# Altium footprint library Connectors-Terminal_Blocks.PcbLib: 15 footprints
Each footprint in its own frame and in the unit in brackets; x right, y up, seen from the top. Pads: shape width x height; smd on the part's side, far side on the other; paste and mask are expansions set on the pad; w line width, h text height; cw(c..) or ccw(c..) is an arc to the next point about the centre after c.
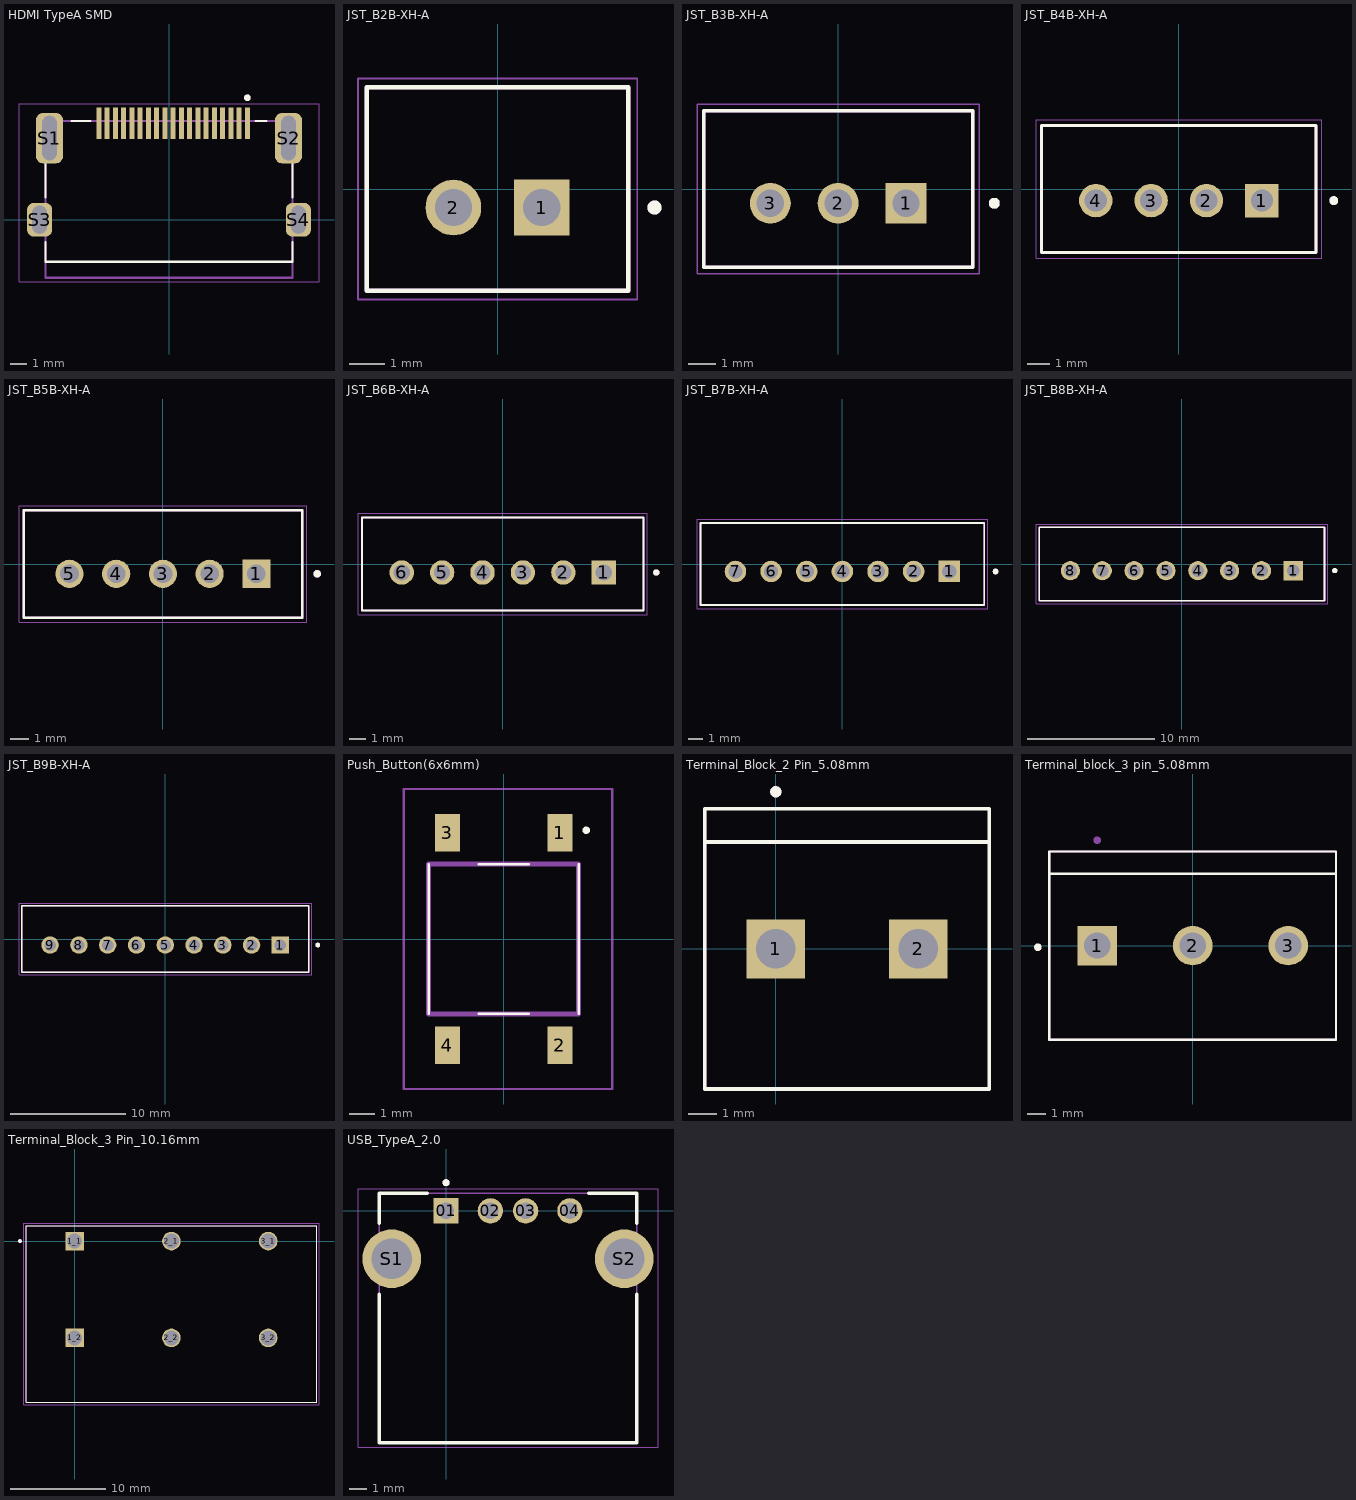
[diagram p0: the footprints below, top view; thin cyan lines are the x and y axes]

## HDMI TypeA SMD [mm]
pads (23):
  rect 0.3x1.9 smd mask+0.102: 1(4.75,5.85) 2(4.25,5.85) 3(3.75,5.85) 4(3.25,5.85) 5(2.75,5.85) 6(2.25,5.85) 7(1.75,5.85) 8(1.25,5.85) 9(0.75,5.85) 10(0.25,5.85) 11(-0.25,5.85) 12(-0.75,5.85) 13(-1.25,5.85) 14(-1.75,5.85) 15(-2.25,5.85) 16(-2.75,5.85) 17(-3.25,5.85) 18(-3.75,5.85) 19(-4.25,5.85)
  rrect50% 1.651x3.048 hole 0.9 slot 2.7 at 90 deg mask+0.102: S1(-7.25,4.95) S2(7.25,4.95)
  rrect50% 1.524x2.032 hole 0.9 slot 1.7 at 90 deg mask+0.102: S3(-7.85,0) S4(7.85,0)
Top Overlay:
  circle w0.2: c4.75,7.4 r0.1
  lines w0.127: -7.5,-1.35 -7.5,-2.55 7.5,-2.55 7.5,-1.35 ; -7.5,1.35 -7.5,3.6 ; -5.9,5.98 -4.75,5.98 ; 5.25,5.98 5.9,5.98 ; 7.5,1.35 7.5,3.6
Mechanical 13:
  circle w0.2: c4.75,7.4 r0.1
  lines w0.127: -7.5,-3.52 7.5,-3.52 7.5,5.98 -7.5,5.98 -7.5,-2.55 -7.5,-3.52
Mechanical 15:
  lines w0.05: -9.1,-3.77 9.1,-3.77 9.1,7.05 -9.1,7.05 -9.1,-3.77
3D body "step_temp.STEP": height 6.26, standoff -1.87, extent -8.1,-3.52 8.1,6.58

## JST_B2B-XH-A [mm]
pads (2):
  rect 1.575x1.575 / inner round 1.575 / far side rect 1.575x1.575 hole 1.05: 1(1.25,-0.525)
  round 1.575 hole 1.05: 2(-1.25,-0.525)
Top Overlay:
  circle w0.2: c4.44,-0.525 r0.1
  lines w0.127: -3.7,-2.875 3.7,-2.875 3.7,2.875 -3.7,2.875 -3.7,-2.875
Mechanical 13:
  circle w0.2: c4.44,-0.525 r0.1
  lines w0.127: -3.7,-2.875 3.7,-2.875 3.7,2.875 -3.7,2.875 -3.7,-2.875
Mechanical 15:
  lines w0.05: -3.95,-3.125 -3.95,3.125 3.95,3.125 3.95,-3.125 -3.95,-3.125
3D body "JST B2B-XH-A Through-hole shrouded header top entry type.step": height 7, standoff -3.4, extent -3.75,-2.95 3.75,2.95

## JST_B3B-XH-A [mm]
pads (3):
  rect 1.508x1.508 / inner round 1.508 / far side rect 1.508x1.508 hole 1: 1(2.5,-0.525)
  round 1.508 hole 1: 2(0,-0.525) 3(-2.5,-0.525)
Top Overlay:
  circle w0.2: c5.75,-0.525 r0.1
  lines w0.127: -4.95,-2.875 -4.95,2.875 4.95,2.875 4.95,-2.875 -4.95,-2.875
Mechanical 13:
  circle w0.2: c5.75,-0.525 r0.1
  lines w0.127: -4.95,-2.875 -4.95,2.875 4.95,2.875 4.95,-2.875 -4.95,-2.875
Mechanical 15:
  lines w0.05: -5.2,-3.125 -5.2,3.125 5.2,3.125 5.2,-3.125 -5.2,-3.125
3D body "step_temp.STEP": height 7, standoff -3.4, extent -4.95,-2.875 4.95,2.875

## JST_B4B-XH-A [mm]
pads (4):
  rect 1.508x1.508 / inner round 1.508 / far side rect 1.508x1.508 hole 1: 1(3.75,-0.525)
  round 1.508 hole 1: 2(1.25,-0.525) 3(-1.25,-0.525) 4(-3.75,-0.525)
Top Overlay:
  circle w0.2: c7,-0.525 r0.1
  lines w0.127: -6.2,-2.875 -6.2,2.875 6.2,2.875 6.2,-2.875 -6.2,-2.875
Mechanical 13:
  circle w0.2: c7,-0.525 r0.1
  lines w0.127: -6.2,-2.875 -6.2,2.875 6.2,2.875 6.2,-2.875 -6.2,-2.875
Mechanical 15:
  lines w0.05: -6.45,-3.125 -6.45,3.125 6.45,3.125 6.45,-3.125 -6.45,-3.125
3D body "B4B-XH-A.STEP": height 6.8, standoff -3.6, extent -6.2,-2.829 6.2,2.921

## JST_B5B-XH-A [mm]
pads (5):
  rect 1.508x1.508 / inner round 1.508 / far side rect 1.508x1.508 hole 1: 1(5,-0.525)
  round 1.508 hole 1: 2(2.5,-0.525) 3(0,-0.525) 4(-2.5,-0.525) 5(-5,-0.525)
Top Overlay:
  circle w0.2: c8.25,-0.525 r0.1
  lines w0.127: -7.45,-2.875 7.45,-2.875 7.45,2.875 -7.45,2.875 -7.45,-2.875
Mechanical 13:
  circle w0.2: c8.25,-0.525 r0.1
  lines w0.127: -7.45,-2.875 7.45,-2.875 7.45,2.875 -7.45,2.875 -7.45,-2.875
Mechanical 15:
  lines w0.05: -7.7,-3.125 7.7,-3.125 7.7,3.125 -7.7,3.125 -7.7,-3.125
3D body "step_temp.STEP": height 7, standoff -3.4, extent -7.45,-2.875 7.45,2.875

## JST_B6B-XH-A [mm]
pads (6):
  rect 1.508x1.508 / inner round 1.508 / far side rect 1.508x1.508 hole 1: 1(6.25,-0.525)
  round 1.508 hole 1: 2(3.75,-0.525) 3(1.25,-0.525) 4(-1.25,-0.525) 5(-3.75,-0.525) 6(-6.25,-0.525)
Top Overlay:
  circle w0.2: c9.5,-0.525 r0.1
  lines w0.127: -8.7,-2.875 -8.7,2.875 8.7,2.875 8.7,-2.875 -8.7,-2.875
Mechanical 13:
  circle w0.2: c9.5,-0.525 r0.1
  lines w0.127: -8.7,-2.875 -8.7,2.875 8.7,2.875 8.7,-2.875 -8.7,-2.875
Mechanical 15:
  lines w0.05: -8.95,-3.125 -8.95,3.125 8.95,3.125 8.95,-3.125 -8.95,-3.125
3D body "step_temp.STEP": height 7, standoff -3.4, extent -8.7,-2.875 8.7,2.875

## JST_B7B-XH-A [mm]
pads (7):
  rect 1.508x1.508 / inner round 1.508 / far side rect 1.508x1.508 hole 1: 1(7.5,-0.525)
  round 1.508 hole 1: 2(5,-0.525) 3(2.5,-0.525) 4(0,-0.525) 5(-2.5,-0.525) 6(-5,-0.525) 7(-7.5,-0.525)
Top Overlay:
  circle w0.2: c10.75,-0.525 r0.1
  lines w0.127: -9.95,-2.875 -9.95,2.875 9.95,2.875 9.95,-2.875 -9.95,-2.875
Mechanical 13:
  circle w0.2: c10.75,-0.525 r0.1
  lines w0.127: -9.95,-2.875 -9.95,2.875 9.95,2.875 9.95,-2.875 -9.95,-2.875
Mechanical 15:
  lines w0.05: -10.2,-3.125 -10.2,3.125 10.2,3.125 10.2,-3.125 -10.2,-3.125
3D body "step_temp.STEP": height 7, standoff -3.4, extent -9.95,-2.875 9.95,2.875

## JST_B8B-XH-A [mm]
pads (8):
  rect 1.508x1.508 / inner round 1.508 / far side rect 1.508x1.508 hole 1: 1(8.75,-0.525)
  round 1.508 hole 1: 2(6.25,-0.525) 3(3.75,-0.525) 4(1.25,-0.525) 5(-1.25,-0.525) 6(-3.75,-0.525) 7(-6.25,-0.525) 8(-8.75,-0.525)
Top Overlay:
  circle w0.2: c12,-0.525 r0.1
  lines w0.127: -11.2,-2.875 11.2,-2.875 11.2,2.875 -11.2,2.875 -11.2,-2.875
Mechanical 13:
  circle w0.2: c12,-0.525 r0.1
  lines w0.127: -11.2,-2.875 11.2,-2.875 11.2,2.875 -11.2,2.875 -11.2,-2.875
Mechanical 15:
  lines w0.05: -11.45,-3.125 11.45,-3.125 11.45,3.125 -11.45,3.125 -11.45,-3.125
3D body "step_temp.STEP": height 7, standoff -3.4, extent -11.2,-2.875 11.2,2.875

## JST_B9B-XH-A [mm]
pads (9):
  rect 1.508x1.508 / inner round 1.508 / far side rect 1.508x1.508 hole 1: 1(10,-0.525)
  round 1.508 hole 1: 2(7.5,-0.525) 3(5,-0.525) 4(2.5,-0.525) 5(0,-0.525) 6(-2.5,-0.525) 7(-5,-0.525) 8(-7.5,-0.525) 9(-10,-0.525)
Top Overlay:
  circle w0.2: c13.25,-0.525 r0.1
  lines w0.127: -12.45,-2.875 12.45,-2.875 12.45,2.875 -12.45,2.875 -12.45,-2.875
Mechanical 13:
  circle w0.2: c13.25,-0.525 r0.1
  lines w0.127: -12.45,-2.875 12.45,-2.875 12.45,2.875 -12.45,2.875 -12.45,-2.875
Mechanical 15:
  lines w0.05: -12.7,-3.125 12.7,-3.125 12.7,3.125 -12.7,3.125 -12.7,-3.125
3D body "step_temp.STEP": height 7, standoff -3.4, extent -12.45,-2.875 12.45,2.875

## Push_Button(6x6mm) [mm]
pads (4):
  rect 1x1.5 smd: 1(2.25,4.25) 2(2.25,-4.25) 3(-2.25,4.25) 4(-2.25,-4.25)
Top Overlay:
  lines w0.1: -3,-3 -3,3 -3,-3 ; -1,-3 1,-3 -1,-3 ; -1,3 1,3 -1,3 ; 3,-3 3,3 3,-3
  lines w0.2: 3.3,4.3 cw(c3.3,4.35) 3.3,4.4 ; 3.3,4.3 ccw(c3.3,4.35) 3.3,4.4 ; 3.3,4.3 cw(c3.3,4.35) 3.3,4.4
Mechanical 15:
  lines w0.2: -3,-3 -3,3 3,3 3,-3 -3,-3
Mechanical 20:
  lines w0.1: -4,-6 -4,6 4.35,6 4.35,-6 -4,-6
3D body "CUI_DEVICES_TS04-66-50-BK-100-SMT.step": height 5, standoff -0.1, extent -3,-5 3,5

## Terminal_Block_2 Pin_5.08mm [mm]
pads (2):
  rect 2.1x2.1 hole 1.4: 1(0,0) 2(5.08,0)
Top Overlay:
  circle w0.2: c0,5.6 r0.1
  lines w0.127: -2.54,3.81 7.62,3.81 ; -2.54,-5 -2.54,5 7.62,5 7.62,-5 -2.54,-5
Mechanical 13:
  circle w0.2: c0,5.6 r0.1
  lines w0.127: -2.54,-5 -2.54,5
3D body "2er Terminal Block.step": height 14, standoff -4.25, extent -3.067,-4.873 7.493,5.127

## Terminal_block_3 pin_5.08mm [mm]
pads (3):
  rect 2.1x2.1 hole 1.4: 1(-5.08,0)
  round 2.1 hole 1.4: 2(0,0) 3(5.08,0)
Top Overlay:
  circle w0.2: c-8.23,-0.087 r0.1
  lines w0.127: -7.62,3.81 7.62,3.81 ; -7.62,-5 7.62,-5 7.62,5 -7.62,5 -7.62,-5
Mechanical 13:
  circle w0.2: c-5.08,5.6 r0.1
  lines w0.127: -7.62,-5 7.62,-5 7.62,5 -7.62,5 -7.62,-5
3D body "3er Terminal Block.step": height 14, standoff -4.25, extent -8.02,-5 7.62,5

## Terminal_Block_3 Pin_10.16mm [mm]
pads (6):
  rect 1.95x1.95 hole 1.6: 1_1(0,0) 1_2(0,-10.16)
  round 1.95 hole 1.6: 2_1(10.16,0) 2_2(10.16,-10.16) 3_1(20.32,0) 3_2(20.32,-10.16)
Top Overlay:
  circle w0.2: c-5.73,0 r0.1
  lines w0.127: -5.08,-16.9 -5.08,1.6 25.4,1.6 25.4,-16.9 -5.08,-16.9
Mechanical 13:
  circle w0.2: c-5.73,0 r0.1
  lines w0.127: -5.08,-16.9 -5.08,1.6 25.4,1.6 25.4,-16.9 ; -5.08,-16.9 25.4,-16.9 ; -5.08,-16.9 25.4,-16.9
Mechanical 15:
  lines w0.05: -5.33,-17.15 -5.33,1.85 25.65,1.85 25.65,-17.15 -5.33,-17.15
3D body "691219610003 (rev1).stp": height 28.91, standoff -4.19, extent -4.999,-16.739 26.081,1.561

## Test Point [mm]
via 0,0 diameter 1.727 hole 0.813

## USB_TypeA_2.0 [mm]
pads (6):
  rect 1.428x1.428 hole 0.92: 01(0,0)
  round 1.428 hole 0.92: 02(2.5,0) 03(4.5,0) 04(7,0)
  round 3.316 hole 2.3: S1(-3.07,-2.71) S2(10.07,-2.71)
Top Overlay:
  circle w0.2: c0,1.59 r0.1
  lines w0.2: -3.775,-4.73 -3.775,-13.11 10.775,-13.11 10.775,-4.73 ; -3.775,-0.69 -3.775,0.99 -1.07,0.99 ; 8.07,0.99 10.775,0.99 10.775,-0.69
Mechanical 13:
  circle w0.2: c0,1.59 r0.1
  lines w0.1: -3.775,-13.11 -3.775,0.99 10.775,0.99 10.775,-13.11 -3.775,-13.11
Mechanical 15:
  lines w0.05: -4.98,-13.36 -4.98,1.24 11.98,1.24 11.98,-13.36 -4.98,-13.36
3D body "USBR-A-S-F-O-TH.stp": height 7.5, standoff -3.85, extent -4.35,-13.2 11.347,1.1